# Altium schematic symbol library 2SC4213BTE85LF.SchLib: 1 symbol
Pins are listed as number, name and electrical type; pins without a type are passive.

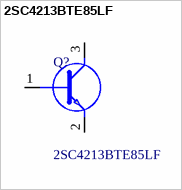
[diagram p0: symbol 2SC4213BTE85LF]

## 2SC4213BTE85LF
designator Q?
Bipolar Transistors - BJT NPN 0.3A IC 20V Gen Purp Trans; Manufacturer_Name: Toshiba; Geometry.Height: 1.1mm; Manufacturer_Part_Number: 2SC4213BTE85LF; Mouser Part Number: 757-2SC4213BTE85LF; Mouser Price/Stock: https://www.mouser.co.uk/ProductDetail/Toshiba/2SC4213BTE85LF?qs=3kEcuH7qFhdqHZKOo23uyA%3D%3D; Arrow Part Number: *; Arrow Price/Stock: *; Datasheet Link: http://toshiba.semicon-storage.com/info/docget.jsp?did=19305&prodName=2SC4213
footprint SOT65P210X110-3N
pins: 1 B, 2 E, 3 C